# Altium footprint library PcbLib1.PcbLib: 7 footprints
Each footprint in its own frame and in the unit in brackets; x right, y up, seen from the top. Pads: shape width x height; smd on the part's side, far side on the other; paste and mask are expansions set on the pad; w line width, h text height; cw(c..) or ccw(c..) is an arc to the next point about the centre after c.
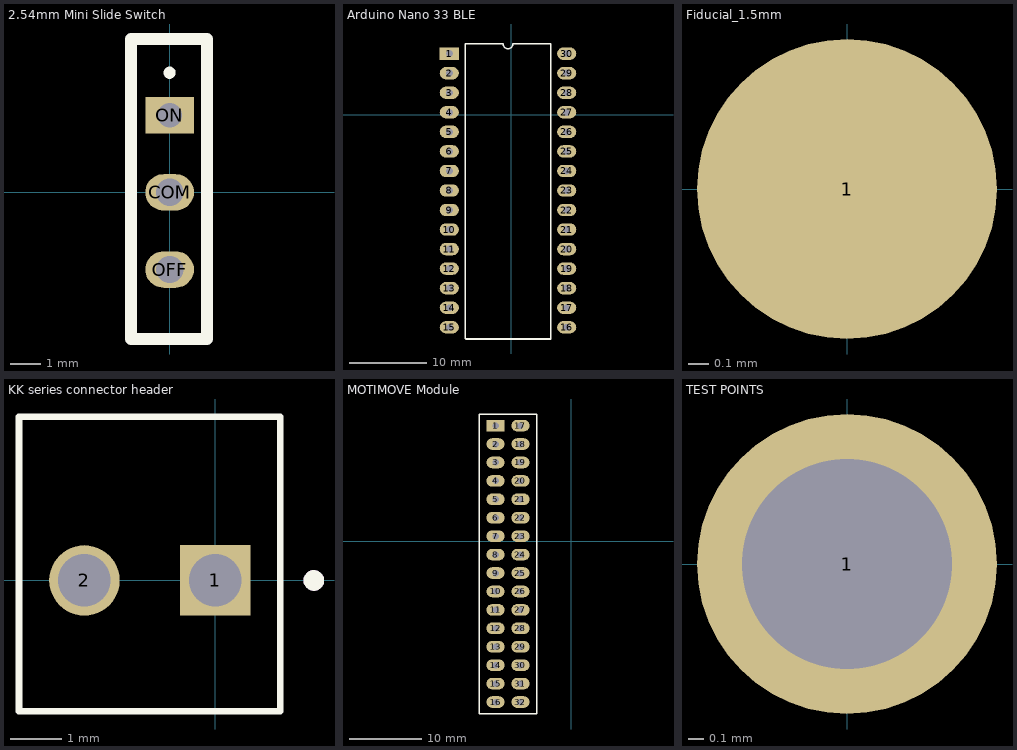
[diagram p0: the footprints below, top view; thin cyan lines are the x and y axes]

## 2.54mm Mini Slide Switch [mm]
pads (3):
  oval 1.6x1.2 hole 0.9: COM(0,0) OFF(0,-2.54)
  rect 1.6x1.2 hole 0.8: ON(0,2.54)
Top Overlay:
  circle w0.2: c0,3.937 r0.1
  lines w0.4: 1.226,4.962 1.226,-4.826 -1.27,-4.826 -1.27,5.047 1.23,5.047

## Arduino Nano 33 BLE [mm]
pads (30):
  rect 2.5x1.6 hole 0.9: 1(-8.026,7.925)
  oval 2.5x1.6 hole 0.9: 2(-8.026,5.385) 3(-8.026,2.845) 4(-8.026,0.305) 5(-8.026,-2.235) 6(-8.026,-4.775) 7(-8.026,-7.315) 8(-8.026,-9.855) 9(-8.026,-12.395) 10(-8.026,-14.935) 11(-8.026,-17.475) 12(-8.026,-20.015) 13(-8.026,-22.555) 14(-8.026,-25.095) 15(-8.026,-27.635) 16(7.224,-27.635) 17(7.224,-25.095) 18(7.224,-22.555) 19(7.224,-20.015) 20(7.224,-17.475) 21(7.224,-14.935) 22(7.224,-12.395) 23(7.224,-9.855) 24(7.224,-7.315) 25(7.224,-4.775) 26(7.224,-2.235) 27(7.224,0.305) 28(7.224,2.845) 29(7.224,5.385) 30(7.224,7.925)
Top Overlay:
  lines w0.2: -5.941,-29.111 -5.893,-29.159 5.139,-29.159 5.139,-8.585 5.139,9.195 0.234,9.195 cw(c-0.401,9.195) -1.036,9.195 -5.941,9.195 -5.941,-8.585 -5.941,-29.111

## Fiducial_1.5mm [mm] "1.5mm Fiducial"
pads (1):
  round 1.5 smd mask+0.75: 1(0,0)

## KK series connector header [mm]
pads (2):
  rect 1.37x1.37 hole 1.02: 1(0,0)
  round 1.37 hole 1.02: 2(-2.54,0)
Top Overlay:
  circle w0.2: c1.92,0 r0.1
  lines w0.127: -3.81,-2.54 1.27,-2.54 1.27,3.18 -3.81,3.18 -3.81,-2.54
Mechanical 13:
  circle w0.2: c1.92,0 r0.1

## MOTIMOVE Module [mm]
pads (32):
  rect 2.5x1.6 hole 0.9: 1(-10.439,15.926)
  oval 2.5x1.6 hole 0.9: 2(-10.439,13.386) 3(-10.439,10.846) 4(-10.439,8.306) 5(-10.439,5.766) 6(-10.439,3.226) 7(-10.439,0.686) 8(-10.439,-1.854) 9(-10.439,-4.394) 10(-10.439,-6.934) 11(-10.439,-9.474) 12(-10.439,-12.014) 13(-10.439,-14.554) 14(-10.439,-17.094) 15(-10.439,-19.634) 16(-10.439,-22.174) 17(-7,15.926) 18(-7,13.386) 19(-7,10.846) 20(-7,8.306) 21(-7,5.766) 22(-7,3.226) 23(-7,0.686) 24(-7,-1.854) 25(-7,-4.394) 26(-7,-6.934) 27(-7,-9.474) 28(-7,-12.014) 29(-7,-14.554) 30(-7,-17.094) 31(-7,-19.634) 32(-7,-22.174)
Top Overlay:
  lines w0.2: -4.767,-3.429 -4.767,17.526 -12.672,17.526 -12.672,-0.584 -12.672,-23.825 -4.775,-23.825 -4.767,-23.817 -4.767,-3.251

## PCBComponent_1 [mm]

## TEST POINTS [mm]
pads (1):
  round 2 hole 1.4: 1(0,0)